# Altium footprint library Battery_Holders.PcbLib: 2 footprints
Each footprint in its own frame and in the unit in brackets; x right, y up, seen from the top. Pads: shape width x height; smd on the part's side, far side on the other; paste and mask are expansions set on the pad; w line width, h text height; cw(c..) or ccw(c..) is an arc to the next point about the centre after c.
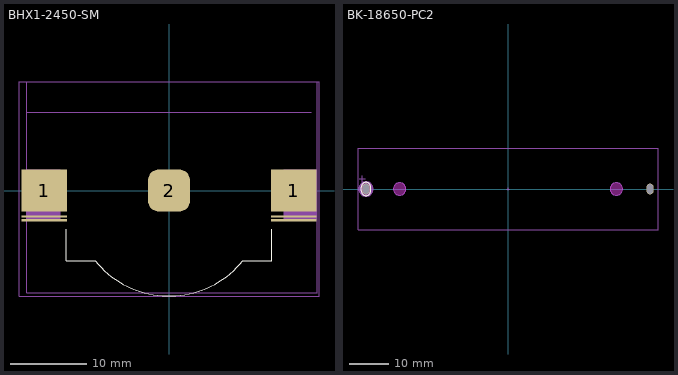
[diagram p0: the footprints below, top view; thin cyan lines are the x and y axes]

## BHX1-2450-SM [mm] "SODFL, 2-Leads, Body 27,64x38,76mm, IPC Medium Density"
height 1.1
pads (7):
  rect 6x0.3 smd: 1(-16.4,-3.9) 1(-16.4,-3.4) 1(16.4,-3.9) 1(16.4,-3.4)
  rect 6x5.5 smd: 1(-16.4,0) 1(16.4,0)
  rrect50% 5.5x5.5 smd: 2(0,0)
Top Overlay:
  lines w0.153: -13.5,-5.1 -13.5,-9.2 -9.703,-9.2 ; -9.702,-9.202 ccw(c0,-1.4) 9.703,-9.201 ; 9.703,-9.2 13.5,-9.2 13.5,-5.1
Mechanical 1:
  lines w0.153: -18.7,10.3 18.7,10.3
  text "PCB EDGE" at -3.066,9.2 h0.8
Top Assembly:
  region: -18.7,2.7 -14.3,2.7 -14.3,-3.8 -18.7,-3.8
  region: 19.5,2.7 15.1,2.7 15.1,-3.8 19.5,-3.8
  lines w0.153: -18.7,-13.4 -18.7,14.3 19.5,14.3 19.5,-13.4 -18.7,-13.4
  text "'.Designator'" at -4.532,-0.333 h0.8
Top Courtyard (Mech6):
  lines w0.153: -0.5,0 0.5,0 ; 0,-0.5 0,0.5 ; -19.7,-13.9 19.7,-13.9 19.7,14.3 -19.7,14.3 -19.7,-13.9
3D body "BHX1-2450-SM--3DModel-STEP-1.STEP": height 5.93, standoff 0.01, extent -18.365,-13.405 18.365,14.235

## BK-18650-PC2 [mm]
pads (2):
  oval 1.8x2.8 hole 1.4 slot 2.4 at 90 deg: 1(-36.45,0) 2(36.45,0)
Top Overlay:
  lines w0.153: -37.65,-0.5 ccw(c-36.45,-0.5) -35.25,-0.5 -35.25,0.5 ccw(c-36.45,0.5) -37.65,0.5 -37.65,-0.5
Keep-Out Layer:
  board cut-out: 26.205,0 26.205,-0.158 26.266,-0.467 26.387,-0.758 26.562,-1.02 26.785,-1.243 27.047,-1.418 27.338,-1.539 27.647,-1.6 27.805,-1.6 27.963,-1.6 28.272,-1.539 28.563,-1.418 28.825,-1.243 29.048,-1.02 29.223,-0.758 29.344,-0.467 29.405,-0.158 29.405,0 29.405,0.158 29.344,0.467 29.223,0.758 29.048,1.02 28.825,1.243 28.563,1.418 28.272,1.539 27.963,1.6 27.805,1.6 27.647,1.6 27.338,1.539 27.047,1.418 26.785,1.243 26.562,1.02 26.387,0.758 26.266,0.467 26.205,0.158
  board cut-out: -27.805,-1.6 -27.963,-1.6 -28.272,-1.539 -28.563,-1.418 -28.825,-1.243 -29.048,-1.02 -29.223,-0.758 -29.344,-0.467 -29.405,-0.158 -29.405,0 -29.405,0.158 -29.344,0.467 -29.223,0.758 -29.048,1.02 -28.825,1.243 -28.563,1.418 -28.272,1.539 -27.963,1.6 -27.805,1.6 -27.647,1.6 -27.338,1.539 -27.047,1.418 -26.785,1.243 -26.562,1.02 -26.387,0.758 -26.266,0.467 -26.205,0.158 -26.205,0 -26.205,-0.158 -26.266,-0.467 -26.387,-0.758 -26.562,-1.02 -26.785,-1.243 -27.047,-1.418 -27.338,-1.539 -27.647,-1.6
Mechanical 1:
  circle w0.153: c27.805,0 r1.6
  circle w0.153: c-27.805,0 r1.6
Top Assembly:
  circle w0.153: c-36.45,0 r1.858
  region: -36.45,-1.858 -36.633,-1.858 -36.992,-1.787 -37.33,-1.647 -37.634,-1.443 -37.893,-1.184 -38.097,-0.88 -38.237,-0.542 -38.308,-0.183 -38.308,0 -38.308,0.183 -38.237,0.542 -38.097,0.88 -37.893,1.184 -37.634,1.443 -37.33,1.647 -36.992,1.787 -36.633,1.858 -36.45,1.858 -36.267,1.858 -35.908,1.787 -35.57,1.647 -35.266,1.443 -35.007,1.184 -34.803,0.88 -34.663,0.542 -34.592,0.183 -34.592,0 -34.592,-0.183 -34.663,-0.542 -34.803,-0.88 -35.007,-1.184 -35.266,-1.443 -35.57,-1.647 -35.908,-1.787 -36.267,-1.858
  lines w0.1: -38.15,2.6 -36.65,2.6 ; -37.4,1.85 -37.4,3.35 ; -38.5,-10.5 38.5,-10.5 38.5,10.5 -38.5,10.5 -38.5,-10.5
Top Courtyard (Mech6):
  lines w0.153: -0.3,0 0.3,0 ; 0,-0.3 0,0.3 ; -38.5,-10.5 38.5,-10.5 38.5,10.5 -38.5,10.5 -38.5,-10.5
3D body "Battery Holder.step": height 25.71, standoff -5.19, extent -38.48,-10.49 38.48,10.49